# EAGLE library part E-L9637D (library E-L9637D)
Monolithic bus driver with ISO 9141 interface Source: Datasheet <https://www.st.com/resource/en/datasheet/l9637.pdf>
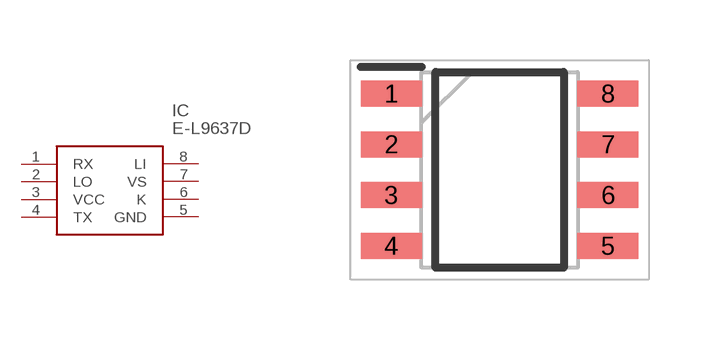
[diagram p0: symbol with the pads of SOIC127P600X175-8N; footprint SOIC127P600X175-8N]

Designator prefix IC

## E-L9637D (Description: Monolithic bus driver with ISO 9141 interface; Height: 1.75mm; Manufacturer_Name: STMicroelectronics; Manufacturer_Part_Number: E-L9637D; Mouser_Part_Number: 511-E-L9637D; Mouser_Price-Stock: https://www.mouser.co.uk/ProductDetail/STMicroelectronics/E-L9637D?qs=lrqjml%252Bjt8d%2FUlnJz0Tlgg%3D%3D)  [SOIC127P600X175-8N]
1  RX
2  LO
3  VCC
4  TX
5  GND
6  K
7  VS
8  LI

## Footprint SOIC127P600X175-8N (pad centres in mm)
SO-8--+GND
smd 1.525 x 0.65: 1 -2.712,1.905; 2 -2.712,0.635; 3 -2.712,-0.635; 4 -2.712,-1.905; 5 2.712,-1.905; 6 2.712,-0.635; 7 2.712,0.635; 8 2.712,1.905